# EAGLE library part STM8S003F3 (library FreeHands_master_lib)
IC MCU 8BIT 8KB FLASH 20TSSOP
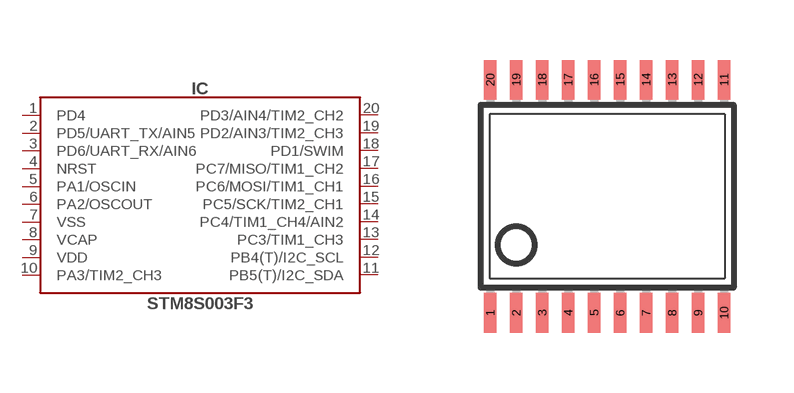
[diagram p4: symbol with the pads of TSSOP20; footprint TSSOP20]

Designator prefix IC

## STM8S003F3 (LINK: https://www.chipdip.ru/product/stm8s003f3p6tr)  [TSSOP20]
1  PD4
2  PD5/UART_TX/AIN5
3  PD6/UART_RX/AIN6
4  NRST
5  PA1/OSCIN
6  PA2/OSCOUT
7  VSS
8  VCAP
9  VDD
10  PA3/TIM2_CH3
11  PB5(T)/I2C_SDA
12  PB4(T)/I2C_SCL
13  PC3/TIM1_CH3
14  PC4/TIM1_CH4/AIN2
15  PC5/SCK/TIM2_CH1
16  PC6/MOSI/TIM1_CH1
17  PC7/MISO/TIM1_CH2
18  PD1/SWIM
19  PD2/AIN3/TIM2_CH3
20  PD3/AIN4/TIM2_CH2

## Footprint TSSOP20 (pad centres in mm)
Thin Shrink Small Outline Plastic 20 MAX3223-MAX3243.pdf
smd 0.305 x 0.991: 1 -2.925,-2.918; 2 -2.275,-2.918; 3 -1.625,-2.918; 4 -0.975,-2.918; 5 -0.325,-2.918; 6 0.325,-2.918; 7 0.975,-2.918; 8 1.625,-2.918; 9 2.275,-2.918; 10 2.925,-2.918; 11 2.925,2.918; 12 2.275,2.918; 13 1.625,2.918; 14 0.975,2.918; 15 0.325,2.918; 16 -0.325,2.918; 17 -0.975,2.918; 18 -1.625,2.918; 19 -2.275,2.918; 20 -2.925,2.918